# Altium footprint library PCB1.PcbLib: 1 footprints
Each footprint in its own frame and in the unit in brackets; x right, y up, seen from the top. Pads: shape width x height; smd on the part's side, far side on the other; paste and mask are expansions set on the pad; w line width, h text height; cw(c..) or ccw(c..) is an arc to the next point about the centre after c.
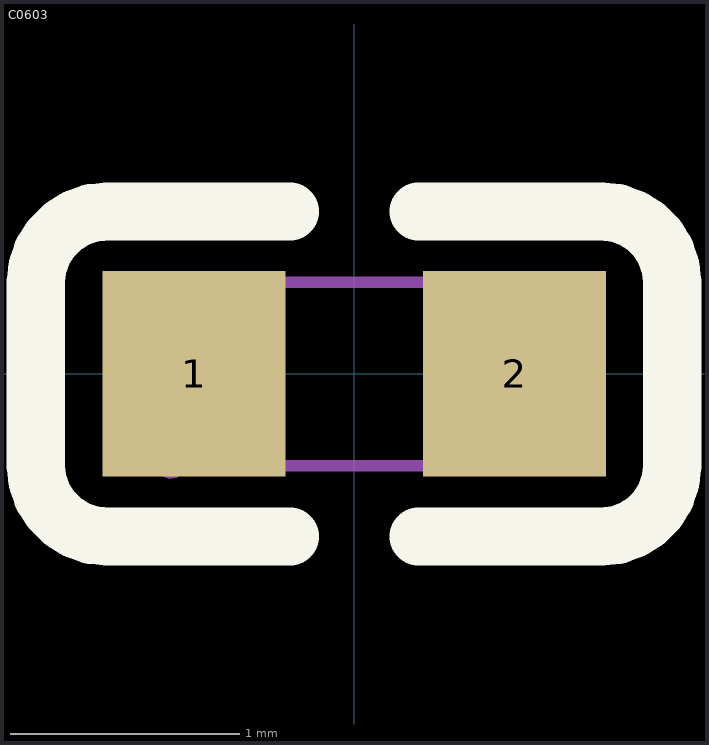
[diagram p0: the footprint, top view; thin cyan lines are the x and y axes]

## C0603 [mil]
pads (2):
  rect 31.5x35.4 smd: 1(-27.5,0) 2(27.6,0)
Top Overlay:
  lines w10: -11,-28 -42.5,-28 -45.2,-27.7 -47.8,-26.8 -50.1,-25.3 -52,-23.4 -53.5,-21.1 -54.4,-18.5 -54.7,-15.8 -54.7,15.7 -54.4,18.4 -53.5,21 -52,23.3 -50.1,25.2 -47.8,26.7 -45.2,27.6 -42.5,27.9 -11,27.9 ; 11.1,-28 42.6,-28 ; 11.1,27.9 42.6,27.9 ; 42.5,-28 45.3,-27.7 47.8,-26.8 50.2,-25.3 52.1,-23.4 53.5,-21.1 54.4,-18.5 54.7,-15.8 54.7,15.7 54.4,18.4 53.5,21 52.1,23.3 50.2,25.2 47.8,26.7 45.3,27.6 42.5,27.9
Mechanical 7:
  lines w2: -31.5,-15.8 31.5,-15.8 31.5,15.7 -31.5,15.7 -31.5,-15.8
Mechanical 8:
  region: -29.1,-15.8 -29.5,-17.1 -30.5,-17.9 -31.8,-18.1 -33,-17.6 -33.7,-16.5 -33.7,-15.1 -33,-14 -31.8,-13.5 -30.5,-13.6 -29.5,-14.5
Mechanical 9:
  region: 31.5,-15.8 31.5,15.7 19.7,15.7 19.7,-15.8
  region: -31.5,-15.8 -31.5,15.7 -19.7,15.7 -19.7,-15.8